# EAGLE library part AD8402_DIP14 (library mylib2)
AD8402 DIP14 Analog Devices 2ch Digital Pot DIP化
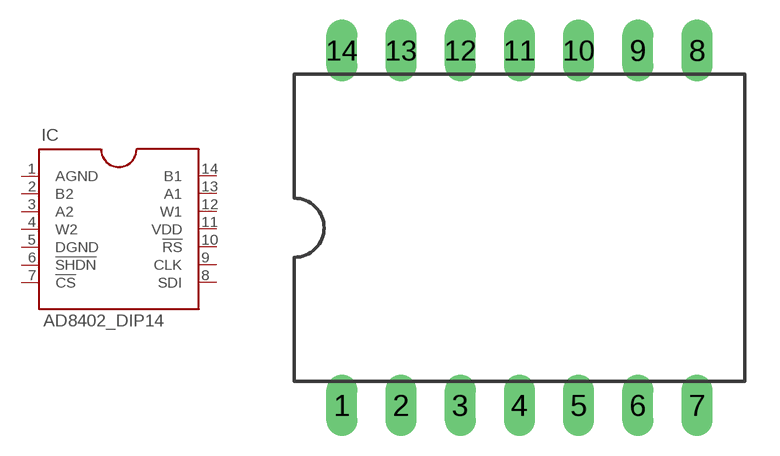
[diagram p18: symbol with the pads of AD8402_DIP14; footprint AD8402_DIP14]

Designator prefix IC

## AD8402_DIP14  [AD8402_DIP14]
1  AGND  pwr
2  B2  pas
3  A2  pas
4  W2  pas
5  DGND  pwr
6  !SHDN  in
7  !CS  in
8  SDI  in
9  CLK  in
10  !RS  in
11  VDD  pwr
12  W1  pas
13  A1  pas
14  B1  pas

## Footprint AD8402_DIP14 (pad centres in mm)
drill 0.813 long: 1 -8.89,-7.62; 2 -6.35,-7.62; 3 -3.81,-7.62; 4 -1.27,-7.62; 5 1.27,-7.62; 6 3.81,-7.62; 7 6.35,-7.62; 8 6.35,7.62; 9 3.81,7.62; 10 1.27,7.62; 11 -1.27,7.62; 12 -3.81,7.62; 13 -6.35,7.62; 14 -8.89,7.62